# Altium footprint library SOT23-8P65_280X145L45X30N.PcbLib: 1 footprints
Each footprint in its own frame and in the unit in brackets; x right, y up, seen from the top. Pads: shape width x height; smd on the part's side, far side on the other; paste and mask are expansions set on the pad; w line width, h text height; cw(c..) or ccw(c..) is an arc to the next point about the centre after c.
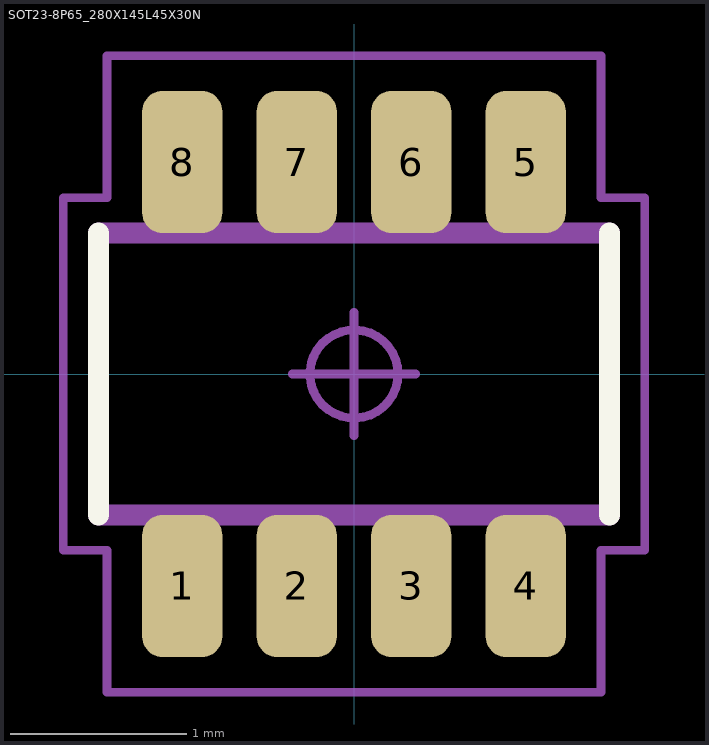
[diagram p0: the footprint, top view; thin cyan lines are the x and y axes]

## SOT23-8P65_280X145L45X30N [mm] "Small Outline Transistor, SOT-23 Type, 0.65 mm pitch; 8 pin, 2.90 mm L X 1.60 mm W X 1.45 mm H body"
height 1.45
pads (8):
  rrect50% 0.455x0.806 smd: 1(-0.975,-1.203) 2(-0.325,-1.203) 3(0.325,-1.203) 4(0.975,-1.203) 5(0.975,1.203) 6(0.325,1.203) 7(-0.325,1.203) 8(-0.975,1.203)
Top Overlay:
  lines w0.12: -1.45,-0.8 -1.45,0.8 ; 1.45,-0.8 1.45,0.8
Mechanical 9:
  text ".Designator" at -2.438,-0.11 h0.51
Mechanical 3:
  lines w0.12: -1.45,-0.8 1.45,-0.8 1.45,0.8 -1.45,0.8 -1.45,-0.8
Mechanical 5:
  lines w0.025: -1.125,-1.4 -1.125,-0.95 -0.825,-0.95 -0.825,-1.4 -1.125,-1.4 ; -1.125,0.95 -1.125,1.4 -0.825,1.4 -0.825,0.95 -1.125,0.95 ; -0.475,-1.4 -0.475,-0.95 -0.175,-0.95 -0.175,-1.4 -0.475,-1.4 ; -0.475,0.95 -0.475,1.4 -0.175,1.4 -0.175,0.95 -0.475,0.95 ; 0.175,-1.4 0.175,-0.95 0.475,-0.95 0.475,-1.4 0.175,-1.4 ; 0.175,0.95 0.175,1.4 0.475,1.4 0.475,0.95 0.175,0.95 ; 0.825,-1.4 0.825,-0.95 1.125,-0.95 1.125,-1.4 0.825,-1.4 ; 0.825,0.95 0.825,1.4 1.125,1.4 1.125,0.95 0.825,0.95
Mechanical 7:
  circle w0.05: c0,0 r0.25
  lines w0.025: -1.45,-0.8 1.45,-0.8 1.45,0.8 -1.45,0.8 -1.45,-0.8
  lines w0.05: -0.35,0 0.35,0 ; 0,-0.35 0,0.35 ; -1.65,-1 -1.402,-1 -1.402,-1.806 1.402,-1.806 1.402,-1 1.65,-1 1.65,1 1.402,1 1.402,1.806 -1.402,1.806 -1.402,1 -1.65,1 -1.65,-1
3D body "SOT23-8P65_280X145L45X30.STEP": height 1.45, standoff 0, extent -1.45,-1.4 1.45,1.4
3D body "SOT23-8P65_280X145L45X30.STEP": height 1.45, standoff 0, extent -1.45,-1.4 1.45,1.4